# Altium footprint library BLDC_Gimbal.PcbLib: 37 footprints (part 2 of 3)
Each footprint in its own frame and in the unit in brackets; x right, y up, seen from the top. Pads: shape width x height; smd on the part's side, far side on the other; paste and mask are expansions set on the pad; w line width, h text height; cw(c..) or ccw(c..) is an arc to the next point about the centre after c.
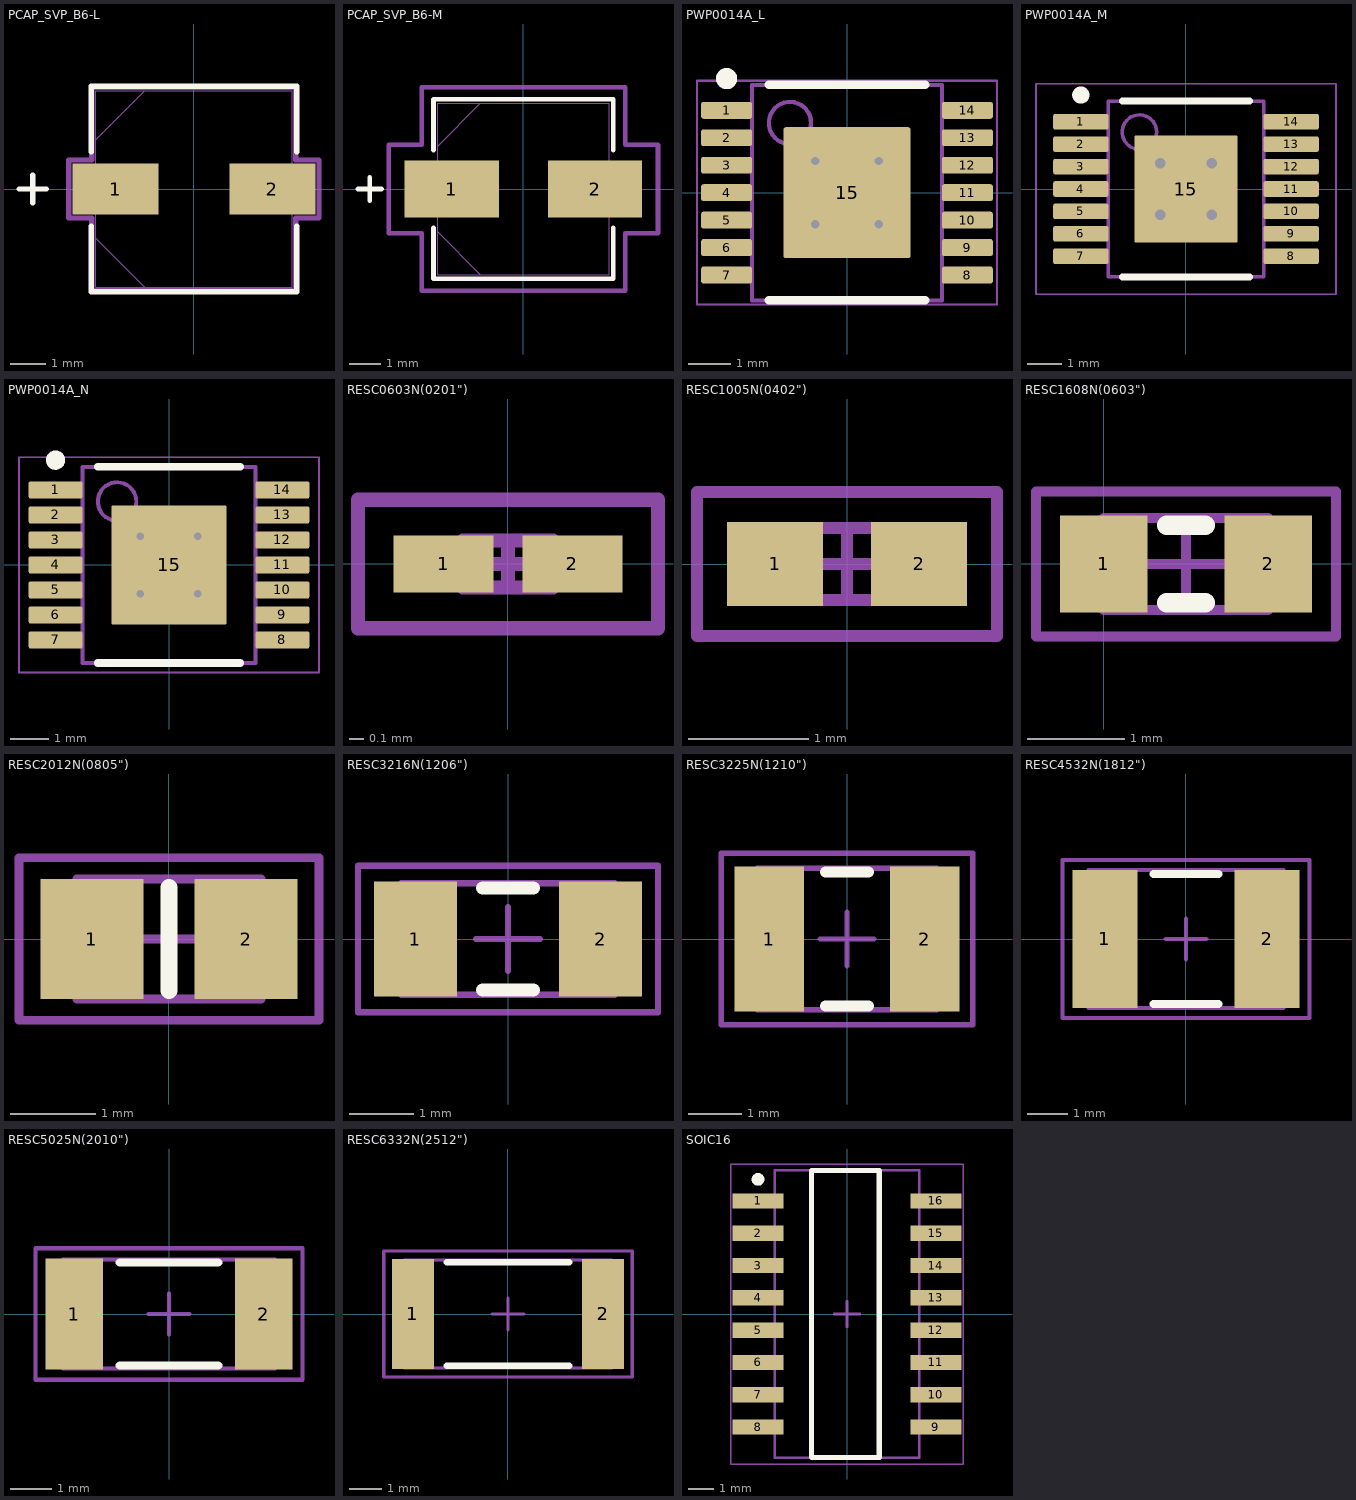
[diagram p1: the footprints below, top view; thin cyan lines are the x and y axes]

## PCAP_SVP_B6-L [mil]
pads (2):
  rect 95x56 smd paste+0 mask+0: 1(-86.5,0) 2(86.5,0)
Top Overlay:
  lines w6: -193,0 -163,0 ; -178,-15 -178,15 ; -113.5,-41.1 -113.5,-113.5 113.5,-113.5 113.5,-41.1 ; -113.5,41.1 -113.5,113.5 113.5,113.5 113.5,41.1
Mechanical 13:
  lines w1: -193,0 -163,0 ; -178,-15 -178,15 ; -108.5,-54.25 -54.25,-108.5 ; -108.5,54.25 -54.25,108.5 ; -108.5,-108.5 -108.5,108.5 108.5,108.5 108.5,-108.5 -108.5,-108.5
Mechanical 15:
  lines w6: -138,-32 -112.5,-32 -112.5,-112.5 112.5,-112.5 112.5,-32 138,-32 138,32 112.5,32 112.5,112.5 -112.5,112.5 -112.5,32 -138,32 -138,-32
3D body "PCAP_SVP_B6-L.step": height 238.11, standoff 0, extent -122,-108.5 122.01,108.51
3D body: height 10, standoff 0, extent 0,0 10,10

## PCAP_SVP_B6-M [mil]
pads (2):
  rect 119x72 smd paste+0 mask+0: 1(-90.5,0) 2(90.5,0)
Top Overlay:
  lines w6: -209,0 -179,0 ; -194,-15 -194,15 ; -113.5,-49.1 -113.5,-113.5 113.5,-113.5 113.5,-49.1 ; -113.5,49.1 -113.5,113.5 113.5,113.5 113.5,49.1
Mechanical 13:
  lines w1: -209,0 -179,0 ; -194,-15 -194,15 ; -108.5,-54.25 -54.25,-108.5 ; -108.5,54.25 -54.25,108.5 ; -108.5,-108.5 -108.5,108.5 108.5,108.5 108.5,-108.5 -108.5,-108.5
Mechanical 15:
  lines w6: -170,-56 -128.5,-56 -128.5,-128.5 128.5,-128.5 128.5,-56 170,-56 170,56 128.5,56 128.5,128.5 -128.5,128.5 -128.5,56 -170,56 -170,-56
3D body: height 10, standoff 0, extent 0,0 10,10
3D body "PCAP_SVP_B6-M.step": height 238.11, standoff 0, extent -122,-108.49 122.01,108.51

## PCBComponent_1 [mm]

## PWP0014A_L [mm] "SOP, 14-Leads, Body 5.1x4.5mm, Pitch 0.65mm, Thermal Pad 3x3.1mm, IPC High Density"
height 1.2
pads (15):
  rrect25% 1.2x0.4 smd: 1(-2.85,1.95) 2(-2.85,1.3) 3(-2.85,0.65) 4(-2.85,0) 5(-2.85,-0.65) 6(-2.85,-1.3) 7(-2.85,-1.95) 8(2.85,-1.95) 9(2.85,-1.3) 10(2.85,-0.65) 11(2.85,0) 12(2.85,0.65) 13(2.85,1.3) 14(2.85,1.95)
  rrect3% 3x3.1 smd: 15(0,0)
via -0.75,0.75 diameter 0.4 hole 0.2
via 0.75,0.75 diameter 0.4 hole 0.2
via 0.75,-0.75 diameter 0.4 hole 0.2
via -0.75,-0.75 diameter 0.4 hole 0.2
Top Overlay:
  circle w0.25: c-2.85,2.7 r0.125
  lines w0.2: -1.85,-2.55 1.85,-2.55 ; -1.85,2.55 1.85,2.55
Mechanical 1:
  text ".Designator" at -1.524,-0.508 h1.02
Mechanical 13:
  circle w0.1: c-1.35,1.65 r0.5
  lines w0.1: -2.25,-2.55 2.25,-2.55 2.25,2.55 -2.25,2.55 -2.25,-2.55
Mechanical 15:
  lines w0.05: -3.55,-2.65 3.55,-2.65 3.55,2.65 -3.55,2.65 -3.55,-2.65
  lines w0.1: -0.5,0 0.5,0 ; 0,-0.5 0,0.5
3D body "PWP0014A.stp": height 1, standoff 0, extent -3.209,-2.5 3.209,2.5

## PWP0014A_M [mm] "SOP, 14-Leads, Body 5.1x4.5mm, Pitch 0.65mm, Thermal Pad 3x3.1mm, IPC Low Density"
height 1.2
pads (15):
  rrect22% 1.6x0.45 smd: 1(-3.05,1.95) 2(-3.05,1.3) 3(-3.05,0.65) 4(-3.05,0) 5(-3.05,-0.65) 6(-3.05,-1.3) 7(-3.05,-1.95) 8(3.05,-1.95) 9(3.05,-1.3) 10(3.05,-0.65) 11(3.05,0) 12(3.05,0.65) 13(3.05,1.3) 14(3.05,1.95)
  rrect3% 3x3.1 smd: 15(0,0)
via -0.75,-0.75 diameter 0.6 hole 0.3
via 0.75,-0.75 diameter 0.6 hole 0.3
via 0.75,0.75 diameter 0.6 hole 0.3
via -0.75,0.75 diameter 0.6 hole 0.3
Top Overlay:
  circle w0.25: c-3.05,2.725 r0.125
  lines w0.2: -1.85,-2.55 1.85,-2.55 ; -1.85,2.55 1.85,2.55
Mechanical 1:
  text ".Designator" at -1.524,-0.508 h1.02
Mechanical 13:
  circle w0.1: c-1.35,1.65 r0.5
  lines w0.1: -2.25,-2.55 -2.25,2.55 2.25,2.55 2.25,-2.55 -2.25,-2.55
Mechanical 15:
  lines w0.05: -4.35,-3.05 -4.35,3.05 4.35,3.05 4.35,-3.05 -4.35,-3.05
  lines w0.1: -0.5,0 0.5,0 ; 0,-0.5 0,0.5
3D body "PWP0014A.stp": height 1, standoff 0, extent -3.209,-2.5 3.209,2.5

## PWP0014A_N [mm] "SOP, 14-Leads, Body 5.1x4.5mm, Pitch 0.65mm, Thermal Pad 3x3.1mm, IPC Medium Density"
height 1.2
pads (15):
  rrect22% 1.4x0.45 smd: 1(-2.95,1.95) 2(-2.95,1.3) 3(-2.95,0.65) 4(-2.95,0) 5(-2.95,-0.65) 6(-2.95,-1.3) 7(-2.95,-1.95) 8(2.95,-1.95) 9(2.95,-1.3) 10(2.95,-0.65) 11(2.95,0) 12(2.95,0.65) 13(2.95,1.3) 14(2.95,1.95)
  rrect3% 3x3.1 smd: 15(0,0)
via -0.75,0.75 diameter 0.4 hole 0.2
via 0.75,0.75 diameter 0.4 hole 0.2
via 0.75,-0.75 diameter 0.4 hole 0.2
via -0.75,-0.75 diameter 0.4 hole 0.2
Top Overlay:
  circle w0.25: c-2.95,2.725 r0.125
  lines w0.2: -1.85,-2.55 1.85,-2.55 ; -1.85,2.55 1.85,2.55
Mechanical 1:
  text ".Designator" at -1.524,-0.508 h1.02
Mechanical 13:
  circle w0.1: c-1.35,1.65 r0.5
  lines w0.1: -2.25,-2.55 2.25,-2.55 2.25,2.55 -2.25,2.55 -2.25,-2.55
Mechanical 15:
  lines w0.05: -3.9,-2.8 3.9,-2.8 3.9,2.8 -3.9,2.8 -3.9,-2.8
  lines w0.1: -0.5,0 0.5,0 ; 0,-0.5 0,0.5
3D body "PWP0014A.stp": height 1, standoff 0, extent -3.209,-2.5 3.209,2.5

## RESC0603N(0201") [mm] "Chip Resistor, Body 0.6x0.3mm (0201\"), IPC Medium Density"
height 0.3
pads (2):
  rect 0.7x0.4 smd: 1(-0.45,0) 2(0.45,0)
Mechanical 13:
  lines w0.1: -0.315,-0.165 0.315,-0.165 0.315,0.165 -0.315,0.165 -0.315,-0.165
Mechanical 15:
  lines w0.1: -0.165,0 0.165,0 ; 0,-0.165 0,0.165 ; -1.05,-0.45 1.05,-0.45 1.05,0.45 -1.05,0.45 -1.05,-0.45
3D body: height 0.3, standoff 0, extent -0.315,-0.165 0.315,0.165

## RESC1005N(0402") [mm] "Chip Resistor, Body 1.1x0.5mm (0402\"), IPC Medium Density"
height 0.4
pads (2):
  rect 0.8x0.7 smd: 1(-0.6,0) 2(0.6,0)
Mechanical 13:
  lines w0.1: -0.55,-0.3 -0.55,0.3 0.55,0.3 0.55,-0.3 -0.55,-0.3
Mechanical 15:
  lines w0.1: -0.3,0 0.3,0 ; 0,-0.3 0,0.3 ; -1.25,-0.6 -1.25,0.6 1.25,0.6 1.25,-0.6 -1.25,-0.6
3D body: height 0.4, standoff 0, extent -0.55,-0.3 0.55,0.3

## RESC1608N(0603") [mm] "Chip Resistor, Body 1.6x0.8mm (0603\"), IPC Medium Density"
height 0.6
pads (2):
  rect 0.9x1 smd: 1(0,0) 2(1.7,0)
Top Overlay:
  lines w0.2: 0.65,-0.4 1.05,-0.4 ; 0.65,0.4 1.05,0.4
Mechanical 13:
  lines w0.1: 0,-0.475 0,0.475 1.7,0.475 1.7,-0.475 0,-0.475
Mechanical 15:
  lines w0.1: 0.375,0 1.325,0 ; 0.85,-0.475 0.85,0.475 ; -0.7,-0.75 -0.7,0.75 2.4,0.75 2.4,-0.75 -0.7,-0.75
3D body: height 0.6, standoff 0, extent 0,-0.475 1.7,0.475

## RESC2012N(0805") [mm] "Chip Resistor, Body 2.0x1.3mm (0805\"), IPC Medium Density"
height 0.65
pads (2):
  rect 1.2x1.4 smd: 1(-0.9,0) 2(0.9,0)
Top Overlay:
  lines w0.2: 0,-0.6 0,0.6
Mechanical 13:
  lines w0.1: -1.075,-0.7 -1.075,0.7 1.075,0.7 1.075,-0.7 -1.075,-0.7
Mechanical 15:
  lines w0.1: -0.5,0 0.5,0 ; 0,-0.5 0,0.5 ; -1.75,-0.95 -1.75,0.95 1.75,0.95 1.75,-0.95 -1.75,-0.95
3D body: height 0.65, standoff 0, extent -1.075,-0.7 1.075,0.7

## RESC3216N(1206") [mm] "Chip Resistor, Body 3.2x1.6mm(1206\"), IPC Medium Density"
height 0.71
pads (2):
  rect 1.3x1.8 smd: 1(-1.45,0) 2(1.45,0)
Top Overlay:
  lines w0.2: -0.4,-0.8 0.4,-0.8 ; -0.4,0.8 0.4,0.8
Mechanical 13:
  lines w0.1: -1.675,-0.875 1.675,-0.875 1.675,0.875 -1.675,0.875 -1.675,-0.875
Mechanical 15:
  lines w0.1: -0.5,0 0.5,0 ; 0,-0.5 0,0.5 ; -2.35,-1.15 2.35,-1.15 2.35,1.15 -2.35,1.15 -2.35,-1.15
3D body: height 0.71, standoff 0, extent -1.675,-0.875 1.675,0.875

## RESC3225N(1210") [mm] "Chip Resistor, Body 3.2x2.5mm (1210\"), IPC Medium Density"
height 0.71
pads (2):
  rect 1.3x2.7 smd: 1(-1.45,0) 2(1.45,0)
Top Overlay:
  lines w0.2: -0.4,-1.25 0.4,-1.25 ; -0.4,1.25 0.4,1.25
Mechanical 13:
  lines w0.1: -1.675,-1.32 1.675,-1.32 1.675,1.32 -1.675,1.32 -1.675,-1.32
Mechanical 15:
  lines w0.1: -0.5,0 0.5,0 ; 0,-0.5 0,0.5 ; -2.35,-1.6 2.35,-1.6 2.35,1.6 -2.35,1.6 -2.35,-1.6
3D body: height 0.71, standoff 0, extent -1.675,-1.32 1.675,1.32

## RESC4532N(1812") [mm] "Chip Resistor, Body 4.5x3.2mm (1812\"), IPC Medium Density"
height 0.71
pads (2):
  rect 1.6x3.4 smd: 1(-2,0) 2(2,0)
Top Overlay:
  lines w0.2: -0.8,-1.6 0.8,-1.6 ; -0.8,1.6 0.8,1.6
Mechanical 13:
  lines w0.1: -2.4,-1.7 2.4,-1.7 2.4,1.7 -2.4,1.7 -2.4,-1.7
Mechanical 15:
  lines w0.1: -0.5,0 0.5,0 ; 0,-0.5 0,0.5 ; -3.05,-1.95 3.05,-1.95 3.05,1.95 -3.05,1.95 -3.05,-1.95
3D body: height 0.71, standoff 0, extent -2.4,-1.7 2.4,1.7

## RESC5025N(2010") [mm] "Chip Resistor, Body 5.0x2.5mm (2010\"), IPC Medium Density"
height 0.71
pads (2):
  rect 1.4x2.7 smd: 1(-2.3,0) 2(2.3,0)
Top Overlay:
  lines w0.2: -1.2,-1.25 1.2,-1.25 ; -1.2,1.25 1.2,1.25
Mechanical 13:
  lines w0.1: -2.575,-1.325 2.575,-1.325 2.575,1.325 -2.575,1.325 -2.575,-1.325
Mechanical 15:
  lines w0.1: -0.5,0 0.5,0 ; 0,-0.5 0,0.5 ; -3.25,-1.6 3.25,-1.6 3.25,1.6 -3.25,1.6 -3.25,-1.6
3D body: height 0.71, standoff 0, extent -2.575,-1.325 2.575,1.325

## RESC6332N(2512") [mm] "Chip Resistor, Body 6.3x3.2mm (2512\"), IPC Medium Density"
height 0.71
pads (2):
  rect 1.3x3.4 smd: 1(-2.95,0) 2(2.95,0)
Top Overlay:
  lines w0.2: -1.9,-1.6 1.9,-1.6 ; -1.9,1.6 1.9,1.6
Mechanical 13:
  lines w0.1: -3.225,-1.675 3.225,-1.675 3.225,1.675 -3.225,1.675 -3.225,-1.675
Mechanical 15:
  lines w0.1: -0.5,0 0.5,0 ; 0,-0.5 0,0.5 ; -3.85,-1.95 3.85,-1.95 3.85,1.95 -3.85,1.95 -3.85,-1.95
3D body: height 0.71, standoff 0, extent -3.225,-1.675 3.225,1.675

## SOIC16 [mm] "SOP, 16-Leads, Body 11.18x5.59mm, Pitch 1.27mm, IPC Medium Density"
height 2.1
pads (16):
  rect 2x0.6 smd: 1(-3.5,4.445) 2(-3.5,3.175) 3(-3.5,1.905) 4(-3.5,0.635) 5(-3.5,-0.635) 6(-3.5,-1.905) 7(-3.5,-3.175) 8(-3.5,-4.445) 9(3.5,-4.445) 10(3.5,-3.175) 11(3.5,-1.905) 12(3.5,-0.635) 13(3.5,0.635) 14(3.5,1.905) 15(3.5,3.175) 16(3.5,4.445)
Top Overlay:
  circle w0.25: c-3.5,5.295 r0.125
  lines w0.2: -1.397,-5.65 1.27,-5.65 1.27,5.65 -1.397,5.65 -1.397,-5.65
Mechanical 13:
  lines w0.1: -2.85,-5.65 2.85,-5.65 2.85,5.65 -2.85,5.65 -2.85,-5.65
Mechanical 15:
  lines w0.05: -4.575,-5.9 4.575,-5.9 4.575,5.9 -4.575,5.9 -4.575,-5.9
  lines w0.1: -0.5,0 0.5,0 ; 0,-0.5 0,0.5
3D body: height 2.1, standoff 0.1, extent -2.85,-5.65 2.85,5.65